# Altium footprint library elem.PcbLib: 6 footprints
Each footprint in its own frame and in the unit in brackets; x right, y up, seen from the top. Pads: shape width x height; smd on the part's side, far side on the other; paste and mask are expansions set on the pad; w line width, h text height; cw(c..) or ccw(c..) is an arc to the next point about the centre after c.
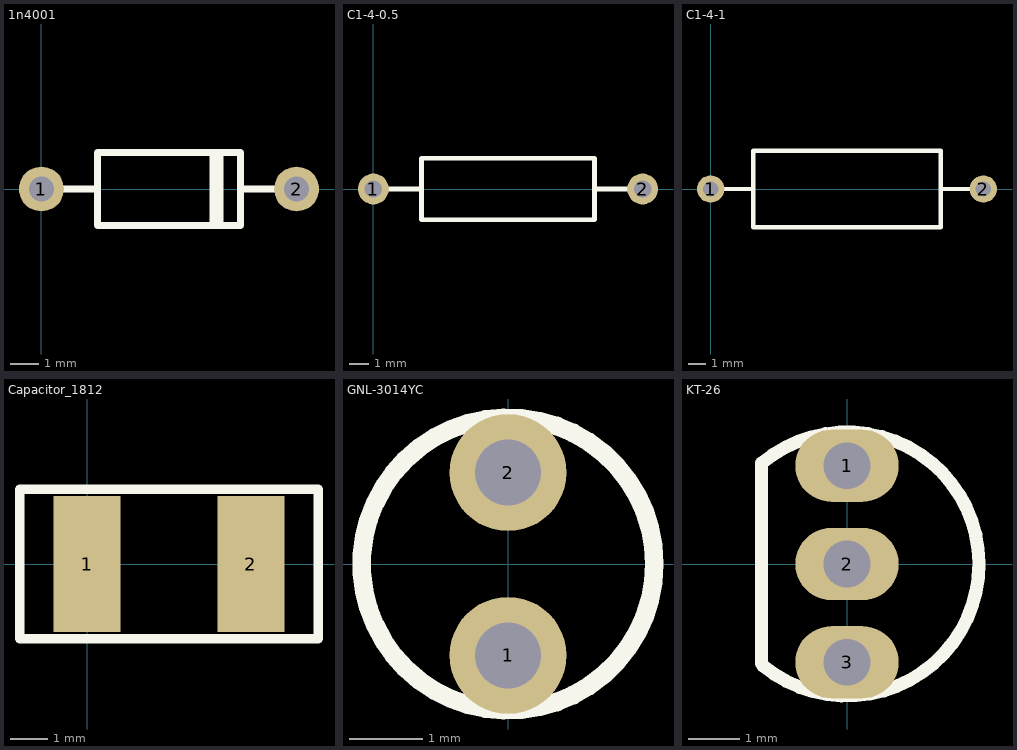
[diagram p0: the footprints below, top view; thin cyan lines are the x and y axes]

## 1n4001 [mm]
pads (2):
  round 1.6 hole 0.9: 1(0,0) 2(9.1,0)
Top Overlay:
  lines w0.254: 0.8,0 2,0 ; 8.3,0 7.1,0 ; 2,0 2,-1.3 7.1,-1.3 7.1,0 ; 2,0 2,1.3 5.825,1.3 7.1,1.3 7.1,0
  lines w0.5: 6.25,-1.15 6.25,1.175
3D body "1n4001.SLDPRT": height 2.6, standoff 0, extent -0.359,-1.3 9.509,1.29

## C1-4-0.5 [mm] "9.0 3.2 3.2"
pads (2):
  round 1.6 hole 0.9: 1(0,0) 2(14,0)
Top Overlay:
  lines w0.254: 0.8,0 2.5,0 ; 11.5,0 13.2,0 ; 2.5,0 2.5,1.6 11.5,1.6 11.5,-1.6 2.5,-1.6 2.5,0
3D body "resistor2.SLDPRT": height 3.2, standoff 0, extent -0.299,-1.6 14.299,1.6

## C1-4-1 [mm] "11.0 4.5 4.5"
pads (2):
  round 1.6 hole 0.9: 1(0,0) 2(16,0)
Top Overlay:
  lines w0.254: 0.75,0 2.5,0 ; 13.5,0 15.25,0 ; 2.5,-2.25 13.5,-2.25 13.5,2.25 2.5,2.25 2.5,-2.25
3D body "resistor.SLDPRT": height 4.5, standoff 0, extent -0.399,-2.25 16.399,2.25

## Capacitor_1812 [mm]
pads (2):
  rect 1.8x3.65 smd: 1(0,0) 2(4.4,0)
Top Overlay:
  lines w0.254: -1.8,-2 6.2,-2 6.2,2 -1.8,2 -1.8,0 -1.8,-2
3D body "GRM43QR72J683KW.SLDPRT": height 2, standoff 0, extent 0.025,-1.6 4.525,1.6

## GNL-3014YC [mm]
pads (2):
  round 1.6 hole 0.9: 1(0,-1.25) 2(0,1.25)
Top Overlay:
  circle w0.254: c0,0 r2

## KT-26 [mm] "npn KT-26"
pads (3):
  oval 2x1.4 hole 0.9: 1(0,1.9) 2(0,0) 3(0,-1.9)
Top Overlay:
  lines w0.254: -1.651,1.945 cw(c0,0) -1.623,-1.968 ; -1.65,-1.925 -1.65,1.95